# Altium footprint library OErs_Drone.PcbLib: 17 footprints (part 1 of 2)
Each footprint in its own frame and in the unit in brackets; x right, y up, seen from the top. Pads: shape width x height; smd on the part's side, far side on the other; paste and mask are expansions set on the pad; w line width, h text height; cw(c..) or ccw(c..) is an arc to the next point about the centre after c.
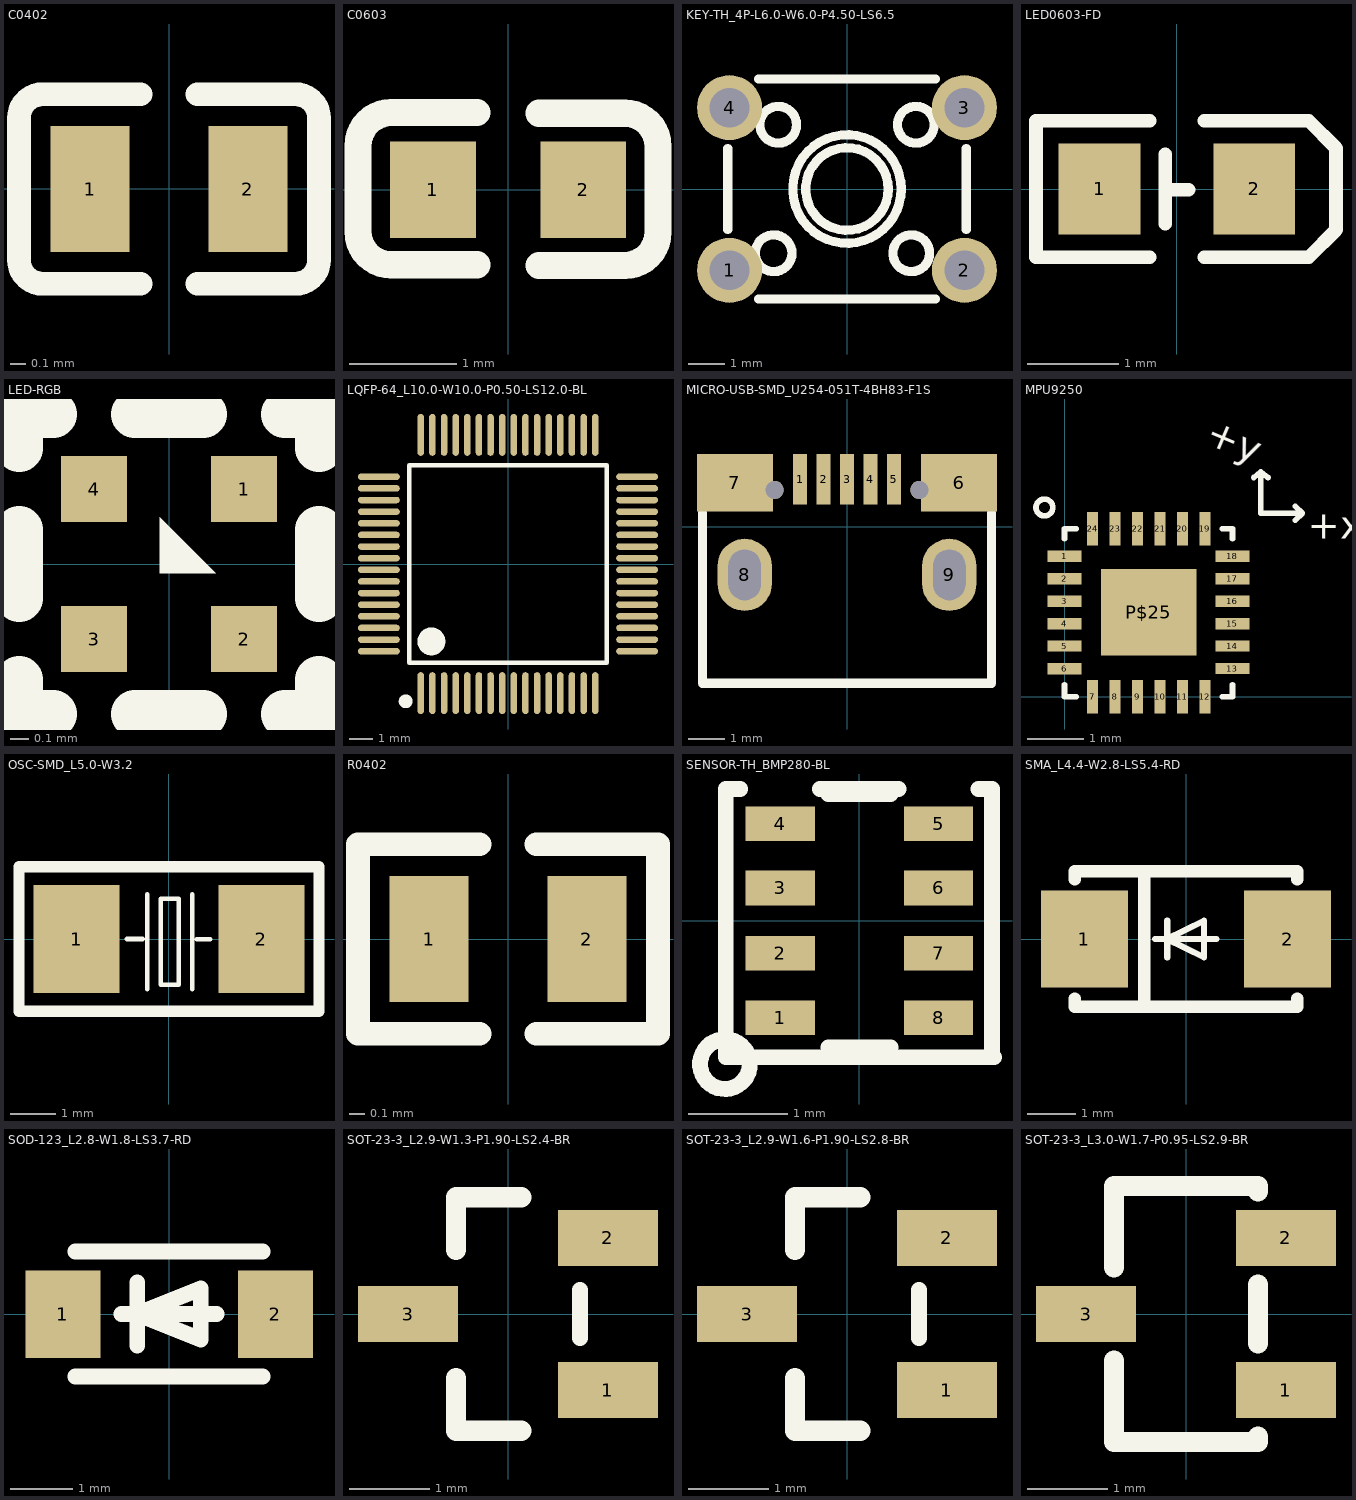
[diagram p0: the footprints below, top view; thin cyan lines are the x and y axes]

## C0402 [mm]
pads (2):
  rect 0.5x0.8 smd: 1(-0.5,0) 2(0.5,0)
Top Overlay:
  lines w0.15: -0.18,-0.6 -0.8,-0.6 cw(c-0.8,-0.45) -0.95,-0.45 -0.95,-0.4 -0.95,0.4 -0.95,0.45 cw(c-0.8,0.45) -0.8,0.6 -0.18,0.6 ; 0.18,-0.6 0.8,-0.6 ccw(c0.8,-0.45) 0.95,-0.45 0.95,-0.4 0.95,0.4 0.95,0.45 ccw(c0.8,0.45) 0.8,0.6 0.18,0.6

## C0603 [mm]
pads (2):
  rect 0.8x0.9 smd: 1(-0.7,0) 2(0.7,0)
Top Overlay:
  lines w0.254: -0.289,-0.698 -1.089,-0.698 cw(c-1.089,-0.388) -1.399,-0.388 -1.398,0.412 cw(c-1.089,0.412) -1.089,0.722 -0.289,0.722 ; 0.287,-0.704 1.087,-0.704 ccw(c1.087,-0.394) 1.397,-0.394 1.397,0.406 ccw(c1.087,0.406) 1.087,0.716 0.287,0.716

## KEY-TH_4P-L6.0-W6.0-P4.50-LS6.5 [mm]
pads (4):
  round 1.8 hole 1.1: 1(-3.251,-2.25) 2(3.251,-2.25) 3(3.251,2.25) 4(-3.251,2.25)
Top Overlay:
  circle w0.254: c-1.905,1.778 r0.508
  circle w0.254: c-2.032,-1.778 r0.508
  circle w0.254: c1.905,1.778 r0.508
  circle w0.254: c1.778,-1.778 r0.508
  circle w0.254: c0,0 r1.143
  circle w0.254: c0,0 r1.501
  lines w0.254: -3.302,-1.12 -3.302,1.12 ; -2.45,-3.048 2.45,-3.048 ; -2.45,3.048 2.45,3.048 ; 3.302,-1.12 3.302,1.12

## LED0603-FD [mm]
pads (2):
  rect 0.9x1 smd: 1(-0.85,0) 2(0.85,0)
Top Overlay:
  lines w0.15: -1.55,-0.75 -0.3,-0.75 ; -1.55,-0.75 -1.55,0.73 ; -1.55,0.75 -0.3,0.75 ; -0.127,-0.381 -0.127,0.381 ; -0.127,-0.006 0.127,-0.006 ; 0.3,-0.75 1.45,-0.75 1.75,-0.45 1.75,-0.35 1.75,0.35 1.75,0.45 1.45,0.75 0.3,0.75

## LED-RGB [mm]
pads (4):
  rect 0.35x0.35 smd: 1(0.4,0.4) 2(0.4,-0.4) 3(-0.4,-0.4) 4(-0.4,0.4)
Top Overlay:
  region: 0.05,0.15 0.25,-0.05 -0.05,-0.05 -0.05,0.25
  lines w0.254: -0.8,-0.618 -0.8,-0.8 -0.618,-0.8 ; -0.8,-0.182 -0.8,0.182 ; -0.8,0.618 -0.8,0.8 -0.618,0.8 ; -0.182,-0.8 0.182,-0.8 ; -0.182,0.8 0.182,0.8 ; 0.618,-0.8 0.8,-0.8 0.8,-0.618 ; 0.618,0.8 0.8,0.8 0.8,0.618 ; 0.8,-0.182 0.8,0.182

## LQFP-64_L10.0-W10.0-P0.50-LS12.0-BL [mm]
pads (64):
  oval 0.28x1.796 smd: 1(-3.75,-5.55) 2(-3.25,-5.55) 3(-2.75,-5.55) 4(-2.25,-5.55) 5(-1.75,-5.55) 6(-1.25,-5.55) 7(-0.75,-5.55) 8(-0.25,-5.55) 9(0.25,-5.55) 10(0.75,-5.55) 11(1.25,-5.55) 12(1.75,-5.55) 13(2.25,-5.55) 14(2.75,-5.55) 15(3.25,-5.55) 16(3.75,-5.55) 33(3.75,5.55) 34(3.25,5.55) 35(2.75,5.55) 36(2.25,5.55) 37(1.75,5.55) 38(1.25,5.55) 39(0.75,5.55) 40(0.25,5.55) 41(-0.25,5.55) 42(-0.75,5.55) 43(-1.25,5.55) 44(-1.75,5.55) 45(-2.25,5.55) 46(-2.75,5.55) 47(-3.25,5.55) 48(-3.75,5.55)
  oval 1.796x0.28 smd: 17(5.55,-3.75) 18(5.55,-3.25) 19(5.55,-2.75) 20(5.55,-2.25) 21(5.55,-1.75) 22(5.55,-1.25) 23(5.55,-0.75) 24(5.55,-0.25) 25(5.55,0.25) 26(5.55,0.75) 27(5.55,1.25) 28(5.55,1.75) 29(5.55,2.25) 30(5.55,2.75) 31(5.55,3.25) 32(5.55,3.75) 49(-5.55,3.75) 50(-5.55,3.25) 51(-5.55,2.75) 52(-5.55,2.25) 53(-5.55,1.75) 54(-5.55,1.25) 55(-5.55,0.75) 56(-5.55,0.25) 57(-5.55,-0.25) 58(-5.55,-0.75) 59(-5.55,-1.25) 60(-5.55,-1.75) 61(-5.55,-2.25) 62(-5.55,-2.75) 63(-5.55,-3.25) 64(-5.55,-3.75)
Top Overlay:
  lines w0.2: -4.25,-4.25 -4.25,4.25 4.25,4.25 4.25,-4.25 -4.25,-4.25
  lines w0.3: -4.399,-5.751 ccw(c-4.398,-5.901) -4.397,-5.751
  lines w0.6: -3.299,-3.025 ccw(c-3.297,-3.325) -3.294,-3.025

## MICRO-USB-SMD_U254-051T-4BH83-F1S [mm]
pads (11):
  rect 0.4x1.4 smd: 1(-1.3,1.325) 2(-0.65,1.325) 3(0,1.325) 4(0.65,1.325) 5(1.3,1.325)
  rect 2.1x1.6 smd: 6(3.1,1.225) 7(-3.1,1.225)
  oval 1.5x1.999 hole 0.9 slot 1.4 at 90 deg: 8(-2.83,-1.325) 9(2.83,-1.325)
  round 0.5 hole 0.5 unplated: ""(-2,1.025) ""(2,1.025)
Top Overlay:
  lines w0.254: -4,0.394 -4,-4.325 4,-4.325 4,0.394

## MPU9250 [mm]
pads (25):
  rect 0.6x0.2 smd: 1(0,2.5) 2(0,2.1) 5(0,0.9)
  rect 0.6x0.201 smd: 3(0,1.701) 4(0,1.299) 6(0,0.499)
  rect 0.2x0.6 smd: 7(0.5,0) 9(1.3,0) 10(1.7,0)
  rect 0.201x0.6 smd: 8(0.9,0) 11(2.099,0) 12(2.501,0)
  rect 0.599x0.2 smd: 13(2.99,0.5) 15(2.99,1.3) 16(2.99,1.7)
  rect 0.599x0.201 smd: 14(2.99,0.9) 17(2.99,2.099) 18(2.99,2.501)
  rect 0.2x0.599 smd: 19(2.5,2.99) 20(2.1,2.99) 23(0.9,2.99)
  rect 0.201x0.599 smd: 21(1.701,2.99) 22(1.299,2.99) 24(0.499,2.99)
  rect 1.7x1.542 smd: P$25(1.5,1.5)
Top Overlay:
  circle w0.1: c-0.358,3.368 r0.15
  lines w0.1: 0,0.21 0,0 0.21,0 ; 0,2.81 0,2.99 0.21,2.99 ; 2.81,0 2.99,0 2.99,0.21 ; 2.81,2.99 2.99,2.99 2.99,2.81 ; 3.368,3.901 3.495,4.003 ; 3.622,3.901 3.495,4.003 ; 4.105,3.139 4.232,3.266 ; 4.105,3.393 4.232,3.266 ; 3.495,4.003 3.495,3.266 4.232,3.266
  text "+x" at 4.333,2.813 h0.5
  text "+y" at 2.482,4.524 h0.5

## OSC-SMD_L5.0-W3.2 [mm]
pads (2):
  rect 1.9x2.4 smd: 1(-2.05,0) 2(2.05,0)
Top Overlay:
  lines w0.1: -0.94,0 -0.584,0 ; -0.483,-1.109 -0.483,0.991 ; 0.517,-1.109 0.517,0.991 ; 0.617,-0.009 0.917,-0.009 ; -0.183,-1.009 0.217,-1.009 0.217,0.89 -0.183,0.89 -0.183,-1.009
  lines w0.254: -3.325,-1.6 -3.325,-0.7 -3.325,0.7 -3.325,1.6 3.325,1.6 3.325,0.7 3.325,-0.7 3.325,-1.6 -3.325,-1.6

## R0402 [mm]
pads (2):
  rect 0.5x0.8 smd: 1(-0.5,0) 2(0.5,0)
Top Overlay:
  lines w0.15: -0.18,-0.6 -0.95,-0.6 -0.95,0.6 -0.18,0.6 ; 0.18,-0.6 0.95,-0.6 0.95,0.6 0.18,0.6

## SENSOR-TH_BMP280-BL [mil]
pads (8):
  rect 27.56x13.8 smd: 1(-31.5,-38.6) 2(-31.5,-13) 3(-31.5,13) 4(-31.5,38.6) 5(31.5,38.6) 6(31.5,13) 7(31.5,-13) 8(31.5,-38.6)
Top Overlay:
  circle w6.3: c-53.5,-57.1 r9.9
  lines w6.3: -47.39,52.36 -53.15,52.36 -53.15,-54.33 53.54,-54.33 ; -15.61,52.36 15.61,52.36 ; -12.4,-50.39 12.4,-50.39 ; -12.4,50.39 12.4,50.39 ; 47.39,52.36 52.76,52.36 52.76,-54.33

## SMA_L4.4-W2.8-LS5.4-RD [mm]
pads (2):
  rect 1.8x2 smd: 1(-2.1,0) 2(2.1,0)
Top Overlay:
  lines w0.127: -0.643,0 0.627,0 ; -0.389,-0.381 -0.389,0 ; -0.389,0.381 -0.389,0 ; -0.389,0 0.373,-0.381 0.373,0 0.373,0.381 -0.389,0
  lines w0.254: -2.3,-1.231 -2.3,-1.4 2.3,-1.4 2.3,-1.231 ; -2.3,1.231 -2.3,1.4 2.3,1.4 2.3,1.231 ; -0.864,-1.4 -0.864,1.4

## SOD-123_L2.8-W1.8-LS3.7-RD [mm]
pads (2):
  rect 1.2x1.4 smd: 1(-1.7,0) 2(1.7,0)
Top Overlay:
  lines w0.254: -1.5,-1 1.5,-1 ; -1.5,1 1.5,1 ; -0.762,0 0.762,0 ; -0.508,-0.508 -0.508,0.508 ; -0.508,0 0.508,-0.406 0.508,0.406 -0.508,0

## SOT-23-3_L2.9-W1.3-P1.90-LS2.4-BR [mm]
pads (3):
  rect 1.25x0.7 smd: 1(1.25,-0.95) 2(1.25,0.95) 3(-1.25,0)
Top Overlay:
  lines w0.2: 0.9,-0.3 0.9,0.3
  lines w0.254: -0.65,-0.8 -0.65,-1.46 0.165,-1.46 ; 0.165,1.46 -0.65,1.46 ; -0.65,0.8 -0.65,1.46 ; -0.65,0.8 -0.65,1.46 ; -0.65,0.8 -0.65,1.46

## SOT-23-3_L2.9-W1.6-P1.90-LS2.8-BR [mm]
pads (3):
  rect 1.25x0.7 smd: 1(1.25,-0.95) 2(1.25,0.95) 3(-1.25,0)
Top Overlay:
  lines w0.2: 0.9,-0.3 0.9,0.3
  lines w0.254: -0.65,-0.8 -0.65,-1.46 0.165,-1.46 ; 0.165,1.46 -0.65,1.46 ; -0.65,0.8 -0.65,1.46 ; -0.65,0.8 -0.65,1.46 ; -0.65,0.8 -0.65,1.46

## SOT-23-3_L3.0-W1.7-P0.95-LS2.9-BR [mm]
pads (3):
  rect 1.25x0.7 smd: 1(1.25,-0.95) 2(1.25,0.95) 3(-1.25,0)
Top Overlay:
  lines w0.254: -0.9,-0.581 -0.9,-1.6 0.9,-1.6 0.9,-1.531 ; -0.9,0.581 -0.9,1.6 0.9,1.6 0.9,1.531 ; 0.9,-0.369 0.9,0.369